# EAGLE library part 61-23RGBC/TR8 (library everlight)
Luminosity Full Color LED
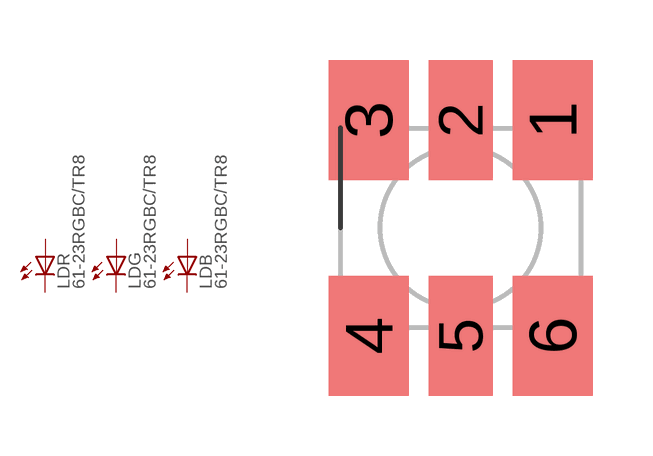
[diagram p0: symbol with the pads of PLCC6; footprint PLCC6]

Designator prefix LD; gates R=LED G=LED B=LED

## 61-23RGBC/TR8  [PLCC6]
1  B:C  pas
2  R:C  pas
3  G:C  pas
4  G:A  pas
5  R:A  pas
6  B:A  pas

## Footprint PLCC6 (pad centres in mm)
smd 2 x 3: 1 2.3,2.7; 3 -2.3,2.7; 4 -2.3,-2.7; 6 2.3,-2.7
smd 1.6 x 3: 2 0,2.7; 5 0,-2.7